# EAGLE library part ADAFRUIT_INDUSTRIES_3966 (library Upverter Library)
BMP388 series Pressure Sensor Evaluation Board
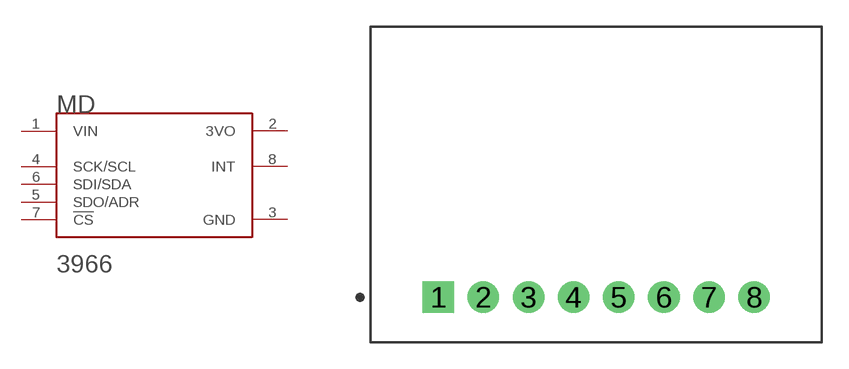
[diagram p0: symbol with the pads of ADAFRUIT_INDUSTRIES_3966_0; footprint ADAFRUIT_INDUSTRIES_3966_0]

Designator prefix MD

## ADAFRUIT_INDUSTRIES_3966ADAFRUIT_INDUSTRIES_3966_0_0 (MF: Adafruit Industries; MPN: 3966; automotive: No; centroid_not_specified: No; datasheet: https://cdn-learn.adafruit.com/downloads/pdf/adafruit-bmp388-bmp390-bmp3xx.pdf?timestamp=1628517945; device_class_L1: Sensors; device_class_L2: Pressure Sensors; device_class_L3: unset; digikey_description: BMP388 - PRECISION BAROMETRIC PR; digikey_part_number: 1528-2733-ND; footprint_variant_name_0: Recommended_Land_Pattern; lead_free: Yes; mfg_package_ident: 0; mfg_package_ident_date: 0; mfg_package_ident_rev: 0; mouser_part_number: 485-3966; package: MODULE_25MM40_17MM78; pin_0_0_4_inside_edge: clock; prefix: MD; rohs: Yes; sensor_output: I2C,SPI; verification_version: 0.0.0.3)  [ADAFRUIT_INDUSTRIES_3966_0]
1  VIN  pwr
2  3VO  pwr
3  GND  pwr
4  SCK/SCL  in
5  SDO/ADR
6  SDI/SDA
7  !CS!  in
8  INT  out

## Footprint ADAFRUIT_INDUSTRIES_3966_0 (pad centres in mm)
BMP388 series Pressure Sensor Evaluation Board
drill 1 pad 1.78 square: 1 -8.89,-6.35
drill 1 pad 1.78 round: 2 -6.35,-6.35; 3 -3.81,-6.35; 4 -1.27,-6.35; 5 1.27,-6.35; 6 3.81,-6.35; 7 6.35,-6.35; 8 8.89,-6.35